# Altium schematic symbol library 6339168-1.SchLib: 1 symbol
Pins are listed as number, name and electrical type; pins without a type are passive.

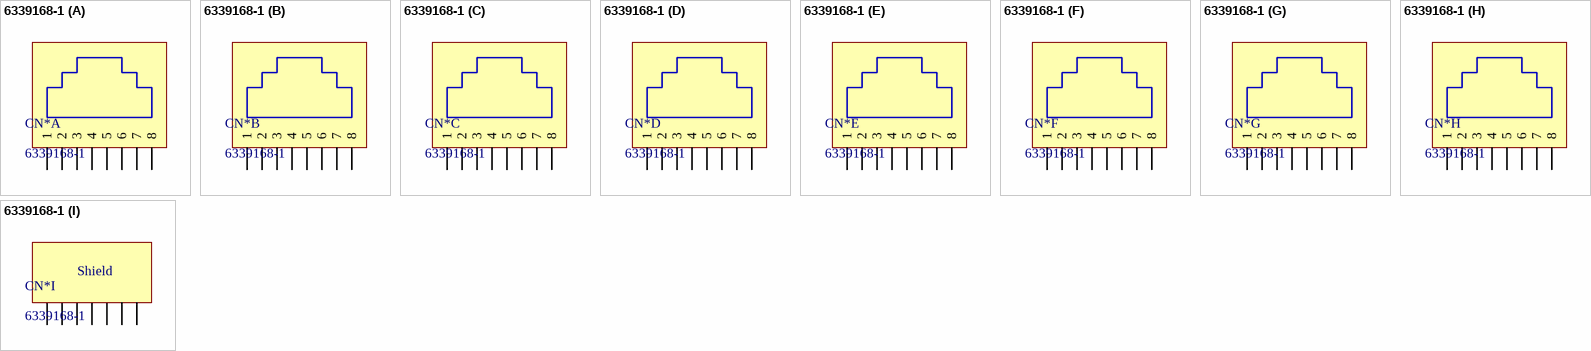
[diagram p0: symbol 6339168-1]

## 6339168-1
designator CN*
RJ45 - 8 Ports 2 Rows
footprint 95122-2881
part A pins: 1, 2, 3, 4, 5, 6, 7, 8
part B pins: 9 1, 10 2, 11 3, 12 4, 13 5, 14 6, 15 7, 16 8
part C pins: 17 1, 18 2, 19 3, 20 4, 21 5, 22 6, 23 7, 24 8
part D pins: 25 1, 26 2, 27 3, 28 4, 29 5, 30 6, 31 7, 32 8
part E pins: 33 1, 34 2, 35 3, 36 4, 37 5, 38 6, 39 7, 40 8
part F pins: 41 1, 42 2, 43 3, 44 4, 45 5, 46 6, 47 7, 48 8
part G pins: 49 1, 50 2, 51 3, 52 4, 53 5, 54 6, 55 7, 56 8
part H pins: 57 1, 58 2, 59 3, 60 4, 61 5, 62 6, 63 7, 64 8
part I pins: 65, 66, 67, 68, 69, 70, 71
part I text: Shield